# EAGLE library part ESP8266 (library Espressif)
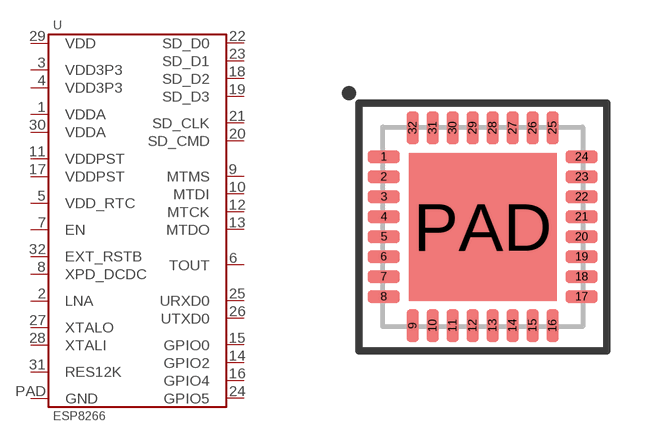
[diagram p1: symbol with the pads of ESP8266; footprint ESP8266]

Designator prefix U

## ESP8266  [ESP8266]
1  VDDA
2  LNA
3  VDD3P3
4  VDD3P3
5  VDD_RTC
6  TOUT
7  EN
8  XPD_DCDC
9  MTMS
10  MTDI
11  VDDPST
12  MTCK
13  MTDO
14  GPIO2
15  GPIO0
16  GPIO4
17  VDDPST
18  SD_D2
19  SD_D3
20  SD_CMD
21  SD_CLK
22  SD_D0
23  SD_D1
24  GPIO5
25  URXD0
26  UTXD0
27  XTALO
28  XTALI
29  VDD
30  VDDA
31  RES12K
32  EXT_RSTB
PAD  GND

## Footprint ESP8266 (pad centres in mm)
smd 0.8 x 0.3: 1 -2.475,1.75; 2 -2.475,1.25; 3 -2.475,0.75; 4 -2.475,0.25; 5 -2.475,-0.25; 6 -2.475,-0.75; 7 -2.475,-1.25; 8 -2.475,-1.75; 17 2.475,-1.75; 18 2.475,-1.25; 19 2.475,-0.75; 20 2.475,-0.25; 21 2.475,0.25; 22 2.475,0.75; 23 2.475,1.25; 24 2.475,1.75
smd 0.3 x 0.8: 9 -1.75,-2.475; 10 -1.25,-2.475; 11 -0.75,-2.475; 12 -0.25,-2.475; 13 0.25,-2.475; 14 0.75,-2.475; 15 1.25,-2.475; 16 1.75,-2.475; 25 1.75,2.475; 26 1.25,2.475; 27 0.75,2.475; 28 0.25,2.475; 29 -0.25,2.475; 30 -0.75,2.475; 31 -1.25,2.475; 32 -1.75,2.475
smd 3.7 x 3.7: PAD 0,0